# Altium footprint library 3.20-未分类器件.PcbLib: 50 footprints (part 4 of 4)
Each footprint in its own frame and in the unit in brackets; x right, y up, seen from the top. Pads: shape width x height; smd on the part's side, far side on the other; paste and mask are expansions set on the pad; w line width, h text height; cw(c..) or ccw(c..) is an arc to the next point about the centre after c.
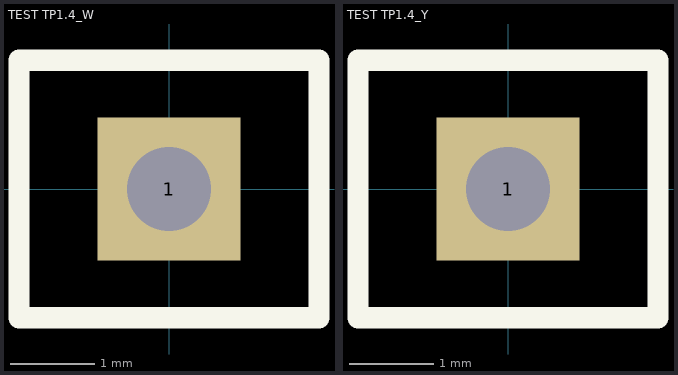
[diagram p3: the footprints below, top view; thin cyan lines are the x and y axes]

## TEST TP1.4_W [mm] "白色，测试环      [ PCB学习群514746572 ]"
pads (1):
  rect 1.7x1.7 hole 1: 1(0,0)
Top Overlay:
  lines w0.254: -1.778,-1.524 1.778,-1.524 1.778,1.524 -1.778,1.524 -1.778,-1.524
3D body "TEST_3.5R_w.STEP": height 2.75, standoff -5.81, extent -1.673,-1.4 1.673,1.4

## TEST TP1.4_Y [mm] "黄色，测试环      [ PCB学习群514746572 ]"
pads (1):
  rect 1.7x1.7 hole 1: 1(0,0)
Top Overlay:
  lines w0.254: -1.778,-1.524 -1.778,1.524 1.778,1.524 1.778,-1.524 -1.778,-1.524
3D body "TEST 3.5R_Y.stp": height 5.41, standoff -3.15, extent -1.673,-1.4 1.673,1.4